# Altium footprint library JTAG.PcbLib: 2 footprints
Each footprint in its own frame and in the unit in brackets; x right, y up, seen from the top. Pads: shape width x height; smd on the part's side, far side on the other; paste and mask are expansions set on the pad; w line width, h text height; cw(c..) or ccw(c..) is an arc to the next point about the centre after c.
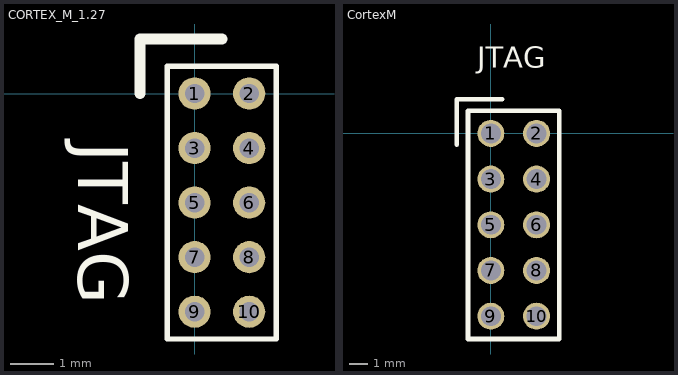
[diagram p0: the footprints below, top view; thin cyan lines are the x and y axes]

## CORTEX_M_1.27 [mm]
pads (10):
  round 0.75 hole 0.45: 1(0,0) 2(1.27,0) 3(0,-1.27) 4(1.27,-1.27) 5(0,-2.54) 6(1.27,-2.54) 7(0,-3.81) 8(1.27,-3.81) 9(0,-5.08) 10(1.27,-5.08)
Top Overlay:
  lines w0.127: -0.635,-5.715 -0.635,0.635 1.905,0.635 1.905,-5.715 -0.635,-5.715
  lines w0.254: -1.27,0 -1.27,1.27 0.635,1.27
  text "JTAG" at -3.099,-1.135 h2
3D body "FTSH-105-01-L-D-K.stp": height 5.56, standoff -2.3, extent -1.08,-5.715 2.35,0.635

## CortexM [mm]
pads (10):
  round 1.5 hole 1.1: 1(0,0) 2(2.54,0) 3(0,-2.54) 4(2.54,-2.54) 5(0,-5.08) 6(2.54,-5.08) 7(0,-7.62) 8(2.54,-7.62) 9(0,-10.16) 10(2.54,-10.16)
Top Overlay:
  lines w0.254: -1.905,-0.635 -1.905,1.27 -1.905,1.905 0.635,1.905 ; -1.27,-11.43 3.81,-11.43 3.81,1.27 -1.27,1.27 -1.27,-11.43
  text "JTAG" at -0.77,3.251 h2
3D body "Header 5x2.step": height 13.04, standoff -2.5, extent -1.27,-11.43 3.81,1.27